# Altium schematic symbol library AudioAmpSchLib.SchLib: 34 symbols
Pins are listed as number, name and electrical type; pins without a type are passive.

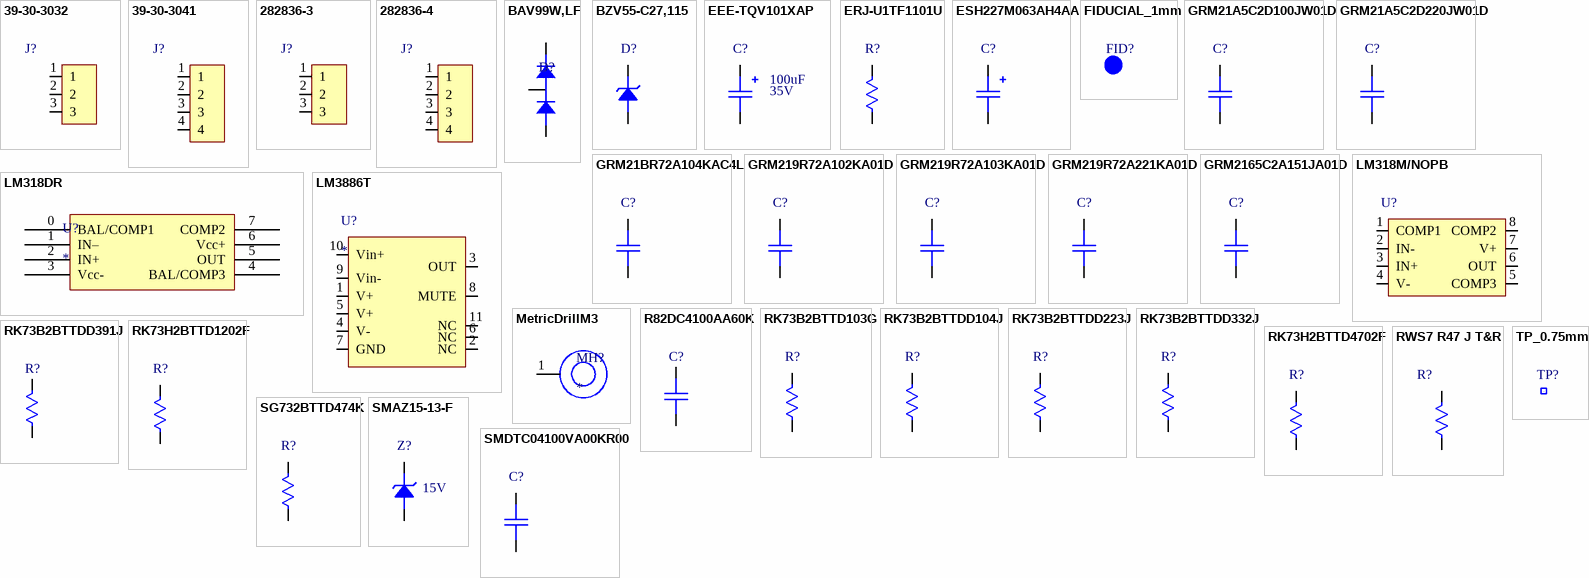
[diagram p0: symbols 39-30-3032 to TP_0.75mm]

## 39-30-3032
designator J?  (value not drawn)
Conn Power HDR 3 POS 4.2mm Solder RA Thru-Hole 3 Terminal 1 Port Mini-Fit Jr™ Frame; Manufacturer: Molex; Supplier 1: Farnell; Manufacturer Part Number: 39-30-3032; RoHS: Yes; Category: Headers and Wire Housings; Stock 1: 6; Pricing 1: 1=1.33000, 10=1.22000, 50=1.10000, 100=0.91400, 500=0.82300, 1000=0.73100 (EUR); ComponentLink1URL: https://datasheet.ciiva.com/5155/0039303032-pcb-headers-160103-5155392.pdf?src-supplier=Mouser; ComponentLink1Description: https://datasheet.ciiva.com/5155/0039303032-pcb-headers-160103-5155392.pdf?src-supplier=Mouser; ComponentLink2URL: https://datasheet.ciiva.com/30191/34870039303032-pcb-headers-30191281.pdf?src-supplier=Onlinecomponents.com; ComponentLink2Description: https://datasheet.ciiva.com/30191/34870039303032-pcb-headers-30191281.pdf?src-supplier=Onlinecomponents.com
footprint CON_39303032
pins: 1, 2, 3

## 39-30-3041
designator J?  (value not drawn)
Conn Power HDR 4 POS 4.2mm Solder RA Thru-Hole 4 Terminal 1 Port Mini-Fit Jr™ Bag; Manufacturer: Molex; Supplier 1: Arrow Electronics; Manufacturer Part Number: 39-30-3041; RoHS: Yes; Category: Headers and Wire Housings; Stock 1: 12737; Pricing 1: 1=0.53590, 10=0.50510, 100=0.47270, 1000=0.43130, 5000=0.40490, 10000=0.39350 (USD); ComponentLink1URL: https://datasheet.ciiva.com/36179/152300039303041-pcb-headers-36179625.pdf?src-supplier=Onlinecomponents.com; ComponentLink1Description: https://datasheet.ciiva.com/36179/152300039303041-pcb-headers-36179625.pdf?src-supplier=Onlinecomponents.com; ComponentLink2URL: https://datasheet.ciiva.com/7843/1597503-7843936.pdf?src-supplier=Element14; ComponentLink2Description: https://datasheet.ciiva.com/7843/1597503-7843936.pdf?src-supplier=Element14
footprint CON_39303041
pins: 1, 2, 3, 4

## 282836-3
designator J?  (value not drawn)
Connector, Terminal Block; Wire Receptacle; 3 Pos.; 16-30 AWG; 0.197 in. CL; Sid; Manufacturer: TE Connectivity; Manufacturer Part Number: 282836-3; Supplier 1: Arrow Electronics; RoHS: Yes; Category: Terminal Blocks; Stock 1: 17595; Pricing 1: 1=1.07040, 10=0.71690, 100=0.59380, 600=0.59230, 1000=0.53630, 4800=0.50760 (USD); ComponentLink1URL: https://datasheet.ciiva.com/16305/eng-cs-1308389-eurostyle-terminal-blocks-0607-16305242.pdf?src-supplier=Future+Electronics; ComponentLink1Description: https://datasheet.ciiva.com/16305/eng-cs-1308389-eurostyle-terminal-blocks-0607-16305242.pdf?src-supplier=Future+Electronics; ComponentLink2URL: https://datasheet.ciiva.com/15169/getdatasheetpartid-155856-15169554.pdf?src-supplier=Verical; ComponentLink2Description: https://datasheet.ciiva.com/15169/getdatasheetpartid-155856-15169554.pdf?src-supplier=Verical; ComponentLink3URL: https://datasheet.ciiva.com/19460/750661-19460522.pdf?src-supplier=Jameco; ComponentLink3Description: https://datasheet.ciiva.com/19460/750661-19460522.pdf?src-supplier=Jameco; ComponentLink4URL: https://datasheet.ciiva.com/11757/0900766b8002dc8a-11757406.pdf?src-supplier=RSComponents; ComponentLink4Description: https://datasheet.ciiva.com/11757/0900766b8002dc8a-11757406.pdf?src-supplier=RSComponents; ComponentLink5URL: https://datasheet.ciiva.com/30106/eng-cs-1308389-eurostyle-terminal-blocks-0607-30106198.pdf?src-supplier=Onlinecomponents.com; ComponentLink5Description: https://datasheet.ciiva.com/30106/eng-cs-1308389-eurostyle-terminal-blocks-0607-30106198.pdf?src-supplier=Onlinecomponents.com; ComponentLink6URL: https://datasheet.ciiva.com/14606/70086276-14606907.pdf?src-supplier=Allied+Electronics; ComponentLink6Description: https://datasheet.ciiva.com/14606/70086276-14606907.pdf?src-supplier=Allied+Electronics; ComponentLink7URL: https://datasheet.ciiva.com/3141/eng-cs-1308389-eurostyle-terminal-blocks-0607-3141119.pdf?src-supplier=Avnet; ComponentLink7Description: https://datasheet.ciiva.com/3141/eng-cs-1308389-eurostyle-terminal-blocks-0607-3141119.pdf?src-supplier=Avnet; ComponentLink8URL: https://datasheet.ciiva.com/823/eng-cd-282836-h10-823445.pdf?src-supplier=Digi-Key; ComponentLink8Description: https://datasheet.ciiva.com/823/eng-cd-282836-h10-823445.pdf?src-supplier=Digi-Key
footprint 282836-3_TYC
pins: 1, 2, 3

## 282836-4
designator J?  (value not drawn)
Connector, Terminal Block; Wire Receptacle; 4 Pos.; 16-30 AWG; 0.197 in. CL; Sid; Manufacturer: TE Connectivity; Manufacturer Part Number: 282836-4; Supplier 1: Arrow Electronics; RoHS: Yes; Category: Terminal Blocks; Stock 1: 3440; Pricing 1: 1=0.88110, 10=0.77090, 100=0.67770, 500=0.64840, 1000=0.59210, 2500=0.54780, 5000=0.37260, 10000=0.36880 (USD); ComponentLink1URL: https://datasheet.ciiva.com/19460/750670-19460514.pdf?src-supplier=Jameco; ComponentLink1Description: https://datasheet.ciiva.com/19460/750670-19460514.pdf?src-supplier=Jameco; ComponentLink2URL: https://datasheet.ciiva.com/11757/0900766b8002dc8a-11757430.pdf?src-supplier=RSComponents; ComponentLink2Description: https://datasheet.ciiva.com/11757/0900766b8002dc8a-11757430.pdf?src-supplier=RSComponents; ComponentLink3URL: https://datasheet.ciiva.com/823/eng-cd-282836-h10-823455.pdf?src-supplier=Digi-Key; ComponentLink3Description: https://datasheet.ciiva.com/823/eng-cd-282836-h10-823455.pdf?src-supplier=Digi-Key; ComponentLink4URL: https://datasheet.ciiva.com/3141/eng-cs-1308389-eurostyle-terminal-blocks-0607-3141577.pdf?src-supplier=Avnet; ComponentLink4Description: https://datasheet.ciiva.com/3141/eng-cs-1308389-eurostyle-terminal-blocks-0607-3141577.pdf?src-supplier=Avnet; ComponentLink5URL: https://datasheet.ciiva.com/26824/getdatasheetpartid-206193-26824087.pdf?src-supplier=Verical; ComponentLink5Description: https://datasheet.ciiva.com/26824/getdatasheetpartid-206193-26824087.pdf?src-supplier=Verical; ComponentLink6URL: https://datasheet.ciiva.com/30161/eng-cs-1308389-eurostyle-terminal-blocks-0607-30161594.pdf?src-supplier=Onlinecomponents.com; ComponentLink6Description: https://datasheet.ciiva.com/30161/eng-cs-1308389-eurostyle-terminal-blocks-0607-30161594.pdf?src-supplier=Onlinecomponents.com; ComponentLink7URL: https://datasheet.ciiva.com/14607/70086278-14607387.pdf?src-supplier=Allied+Electronics; ComponentLink7Description: https://datasheet.ciiva.com/14607/70086278-14607387.pdf?src-supplier=Allied+Electronics
footprint 282836-4_TYC
pins: 1, 2, 3, 4

## BAV99W,LF
designator D?  (value not drawn)
Switching Diode Series 0.9pF 100V 3-Pin SOT-323; Manufacturer: Toshiba; Manufacturer Part Number: BAV99W,LF; Supplier 1: Mouser; RoHS: No; Category: Rectifier Diodes; Stock 1: 14403; Pricing 1: 1=0.22000, 10=0.20200, 50=0.20200, 100=0.11000, 1000=0.04700, 10000=0.03900 (USD)
footprint SOT65P210X100-3N-SOT-323-TOSHIBA (3-Leads, Body 2.00x2.10mm, Pitch 0.65mm, IPC Medium Density); pin to pad A1>1 K1A2>3 K2>2
pins: A1, K1A2, K2

## BZV55-C27,115
designator D?  (value not drawn)
Zener diode BZV55C27 Hottech; SMD; MiniMELF, LL-34 (SOD-80); 27V; 0, 5W; 5%; Manufacturer: Nexperia; Manufacturer Part Number: BZV55-C27,115; Supplier 1: Digi-Key; RoHS: Yes; Category: Zener Diodes; Stock 1: 153; Pricing 1: 1=0.19000, 10=0.17500, 100=0.09520, 500=0.05856, 1000=0.03993 (USD); RoHS Compliant: Yes; ComponentLink1URL: http://www.farnell.com/datasheets/1498690.pdf?src-supplier=Farnell; ComponentLink1Description: http://www.farnell.com/datasheets/1498690.pdf?src-supplier=Farnell; ComponentLink2URL: https://assets.nexperia.com/documents/data-sheet/BZV55_SER.pdf?src-supplier=Digi-Key; ComponentLink2Description: https://assets.nexperia.com/documents/data-sheet/BZV55_SER.pdf?src-supplier=Digi-Key
footprint DIOMELF3515N-SOD80C-NEXPERIA (MELF Diode, 2-Leads, Body 3.50x1.53mm, IPC Medium Density); pin to pad A>2 K>1
pins: A, K

## EEE-TQV101XAP
designator C?  Capacitance: 100uF  Voltage Rating: 35V  (hidden comment: *)
Cap Aluminum 100uF 35V 20% (6.3 X 7.7mm) SMD 0.0003 Ohm 197mA 2000 hr 125°C T/R; Manufacturer: Panasonic; Manufacturer Part Number: EEE-TQV101XAP; ESR (Equivalent Series Resistance): 300mR; Life (Hours): 2000Hour; Lead Diameter: 0.65mm; Supplier 1: RSComponents; RoHS: Yes; Category: Aluminum Electrolytic Capacitors; Stock 1: 10800; Pricing 1: 5=1.00000, 50=0.75600, 250=0.54600, 500=0.36400, 900=0.35000 (EUR); Mount: Surface Mount; Case/Package: Radial; Number of Pins: 8; Min Operating Temperature: -40°C; Max Operating Temperature: 125°C; Tolerance: 20%; Packaging: Tape and Reel; Package Quantity: 900; Ripple Current: 197mA; Voltage Rating (DC): 35V; Termination: SMD/SMT; Series: TQ; Ripple Current (AC): 197mA; Voltage: 35V; Construction: Cylindrical; Diameter: 6.3mm; Length: 7.7mm; Height: 7.7mm; Height - Seated (Max): 0.315inch; Lead Pitch: 1.8mm; RoHS Compliant: Yes; REACH SVHC: No SVHC; Lead Free: Lead Free; ComponentLink1URL: https://datasheet.ciiva.com/23859/aba0000ce139-23859013.pdf?src-supplier=Newark; ComponentLink1Description: https://datasheet.ciiva.com/23859/aba0000ce139-23859013.pdf?src-supplier=Newark; ComponentLink2URL: https://datasheet.ciiva.com/30502/0900766b81183640-30502676.pdf?src-supplier=RSComponents; ComponentLink2Description: https://datasheet.ciiva.com/30502/0900766b81183640-30502676.pdf?src-supplier=RSComponents; ComponentLink3URL: https://datasheet.ciiva.com/30198/aba0000ce139-30198276.pdf?src-supplier=Onlinecomponents.com; ComponentLink3Description: https://datasheet.ciiva.com/30198/aba0000ce139-30198276.pdf?src-supplier=Onlinecomponents.com; ComponentLink4URL: https://datasheet.ciiva.com/14497/1679509-14497981.pdf?src-supplier=Farnell; ComponentLink4Description: https://datasheet.ciiva.com/14497/1679509-14497981.pdf?src-supplier=Farnell; ComponentLink5URL: https://datasheet.ciiva.com/22683/1679509-22683999.pdf?src-supplier=Element14; ComponentLink5Description: https://datasheet.ciiva.com/22683/1679509-22683999.pdf?src-supplier=Element14; ComponentLink6URL: https://datasheet.ciiva.com/15934/aba0000ce139-15934059.pdf?src-supplier=Onlinecomponents.com; ComponentLink6Description: https://datasheet.ciiva.com/15934/aba0000ce139-15934059.pdf?src-supplier=Onlinecomponents.com
footprint CAPAE7866X80M-PANASONIC-TQ-A (Aluminum Electrolytic Capacitor, Body 6.60x6.60x8.00mm, IPC Low Density)
pins: 1, 2

## ERJ-U1TF1101U
designator R?  (value not drawn)
Resistance: 1.1kOhm; Power: 1W; Size: 2512
footprint Chip2PinSM127P600-8N-PANASONIC-ERJU1T
pins: 1, 2

## ESH227M063AH4AA
designator C?  (value not drawn)
Cap, 220ΜF, 63V, 20%; Manufacturer: KEMET; Manufacturer Part Number: ESH227M063AH4AA; Capacitance: 220uF; Life (Hours): 2000Hour; Supplier 1: Mouser; RoHS: Yes; Category: Aluminum Electrolytic Capacitors; Stock 1: 236; Pricing 1: 1=0.58000, 10=0.40900, 50=0.30900, 100=0.26900, 1000=0.26900, 10000=0.26900 (USD); Case/Package: Radial; Min Operating Temperature: -25°C; Max Operating Temperature: 105°C; Tolerance: 20%; Voltage Rating: 63V; Voltage Rating (DC): 63V; Diameter: 10mm; Height: 19mm; Lead Pitch: 5mm; REACH SVHC: No SVHC; RoHS Compliant: Yes; ComponentLink1URL: https://datasheet.ciiva.com/22620/1794402-22620869.pdf?src-supplier=Element14; ComponentLink1Description: https://datasheet.ciiva.com/22620/1794402-22620869.pdf?src-supplier=Element14
footprint Capacitor-KEMET-H4
pins: 1, 2

## FIDUCIAL_1mm
designator FID?  (value not drawn)  (no BOM)
FIDUCIAL_1mm 40 mil diam120mil mask
footprint FID_1mm

## GRM21A5C2D100JW01D
designator C?  (value not drawn)
Cap Ceramic 10pF 200V C0G 5% Pad SMD 0805 125C T/R; Manufacturer: Murata; Manufacturer Part Number: GRM21A5C2D100JW01D; Supplier 1: Arrow Electronics; RoHS: Yes; Category: Ceramic Capacitors; Stock 1: 3605; Pricing 1: 1=0.27880, 10=0.18960, 25=0.18290, 100=0.10650, 250=0.10520, 500=0.07580, 1000=0.06340, 3000=0.06300 (USD); Mount: Surface Mount; Case/Package: 0805; Min Operating Temperature: -55°C; Max Operating Temperature: 125°C; Packaging: Tape and Reel; Capacitance: 10pF; Voltage Rating: 200V; Tolerance: 5%; Voltage Rating (DC): 200V; Dielectric: C0G; Length: 0.079inch; Width: 0.049inch; Thickness: 0.051inch; RoHS Compliant: Yes; ComponentLink1URL: https://search.murata.co.jp/Ceramy/image/img/A01X/G101/ENG/GRM21A5C2D100JW01-01.pdf?src-supplier=Digi-Key; ComponentLink1Description: https://search.murata.co.jp/Ceramy/image/img/A01X/G101/ENG/GRM21A5C2D100JW01-01.pdf?src-supplier=Digi-Key; ComponentLink2URL: http://search.murata.co.jp/Ceramy/image/img/A01X/G101/ENG/GRM21A5C2D100JW01-01.pdf?src-supplier=Digi-Key; ComponentLink2Description: http://search.murata.co.jp/Ceramy/image/img/A01X/G101/ENG/GRM21A5C2D100JW01-01.pdf?src-supplier=Digi-Key
footprint CAPC2012X10N-GRM0805-MURATA (Chip Capacitor, 2-Leads, Body 2.00x1.25mm, IPC Medium Density)
pins: 1, 2

## GRM21A5C2D220JW01D
designator C?  (value not drawn)
Cap Ceramic 22pF 200V C0G 5% SMD 0805 125°C Paper T/R; Manufacturer: Murata; Manufacturer Part Number: GRM21A5C2D220JW01D; Supplier 1: Arrow Electronics; RoHS: Yes; Category: Ceramic Capacitors; Stock 1: 2; Pricing 1: 1=0.04630 (USD); Mount: Surface Mount; Case/Package: 0805; Min Operating Temperature: -55°C; Max Operating Temperature: 125°C; Packaging: Tape and Reel; Capacitance: 22pF; Voltage Rating: 200V; Tolerance: 5%; Voltage Rating (DC): 200V; Dielectric: C0G; Length: 0.079inch; Width: 0.049inch; Thickness: 0.051inch; RoHS Compliant: Yes; ComponentLink1URL: https://search.murata.co.jp/Ceramy/image/img/A01X/G101/ENG/GRM21A5C2D220JW01-01.pdf?src-supplier=Digi-Key; ComponentLink1Description: https://search.murata.co.jp/Ceramy/image/img/A01X/G101/ENG/GRM21A5C2D220JW01-01.pdf?src-supplier=Digi-Key; ComponentLink2URL: http://search.murata.co.jp/Ceramy/image/img/A01X/G101/ENG/GRM21A5C2D220JW01-01.pdf?src-supplier=Digi-Key; ComponentLink2Description: http://search.murata.co.jp/Ceramy/image/img/A01X/G101/ENG/GRM21A5C2D220JW01-01.pdf?src-supplier=Digi-Key
footprint CAPC2012X10N-GRM0805-MURATA (Chip Capacitor, 2-Leads, Body 2.00x1.25mm, IPC Medium Density)
pins: 1, 2

## GRM21BR72A104KAC4L
designator C?  (value not drawn)
0805 0.1 uF 100 V ±10% Tolerance X7R SMT Multilayer Ceramic Capacitor; Manufacturer: Murata; Manufacturer Part Number: GRM21BR72A104KAC4L; Capacitance: 100nF; Voltage Rating: 100V; Dissipation Factor: 0.05%; Supplier 1: Arrow Electronics; RoHS: Yes; Category: Ceramic Capacitors; Stock 1: 15610; Pricing 1: 1=0.26170, 10=0.12880, 25=0.12760, 100=0.10330, 250=0.10110, 500=0.07210, 1000=0.06190, 3000=0.06120, 6000=0.06030, 15000=0.05530 (USD); Mount: Surface Mount; Case/Package: 0805; Case Code (Metric): 2012; Case Code (Imperial): 0805; Dielectric Material: Ceramic; Min Operating Temperature: -55°C; Max Operating Temperature: 125°C; Packaging: Tape and Reel; Tolerance: 10%; Dielectric: X7R; Voltage: 100V; Termination: SMD/SMT; Voltage Rating (DC): 100V; Series: GRM; Construction: Flat; Length: 2mm; Width: 0.049inch; Height: 1.25mm; Thickness: 0.053inch; Depth: 1.25mm; Lead Free: Lead Free; RoHS Compliant: Yes; ComponentLink1URL: http://search.murata.co.jp/Ceramy/image/img/A01X/G101/ENG/GRM21BR72A104KAC4-01.pdf?src-supplier=Digi-Key; ComponentLink1Description: http://search.murata.co.jp/Ceramy/image/img/A01X/G101/ENG/GRM21BR72A104KAC4-01.pdf?src-supplier=Digi-Key
footprint CAPC2012X10N-GRM0805-MURATA (Chip Capacitor, 2-Leads, Body 2.00x1.25mm, IPC Medium Density)
pins: 1, 2

## GRM219R72A102KA01D
designator C?  (value not drawn)
0805 1 nF 100 V ±10 % Tolerance X7R Surface Mount Multilayer Ceramic Capacitor; Manufacturer: Murata; Manufacturer Part Number: GRM219R72A102KA01D; Capacitance: 1nF; Voltage Rating: 100V; Tolerance: 10%; Dissipation Factor: 0.025%; Supplier 1: Arrow Electronics; RoHS: Yes; Category: Ceramic Capacitors; Stock 1: 2320; Pricing 1: 1=0.16850, 10=0.12550, 25=0.12080, 100=0.06030, 250=0.05970, 500=0.04130, 1000=0.03450 (USD); Mount: Surface Mount; Case/Package: 0805; Case Code (Metric): 2012; Case Code (Imperial): 0805; Material: Ceramic; Dielectric Material: Ceramic; Min Operating Temperature: -55°C; Max Operating Temperature: 125°C; Package Quantity: 4000; Packaging: Tape and Reel; Voltage Rating (DC): 100V; Dielectric: X7R; Termination: SMD/SMT; Voltage: 100V; Series: GRM; Construction: Flat; Length: 2mm; Width: 0.049inch; Height: 0.85mm; Thickness: 0.037inch; Depth: 1.25mm; Radiation Hardening: No; Lead Free: Lead Free; RoHS Compliant: Yes; ComponentLink1URL: https://datasheet.ciiva.com/5418/product-5418996.pdf?src-supplier=Mouser; ComponentLink1Description: https://datasheet.ciiva.com/5418/product-5418996.pdf?src-supplier=Mouser; ComponentLink2URL: https://datasheet.ciiva.com/29200/452953-da-01-en-vs-kondensator-0805-29200622.pdf?src-supplier=Conrad; ComponentLink2Description: https://datasheet.ciiva.com/29200/452953-da-01-en-vs-kondensator-0805-29200622.pdf?src-supplier=Conrad; ComponentLink3URL: https://datasheet.ciiva.com/166/partnumbering-e-01-166386.pdf?src-supplier=Digi-Key; ComponentLink3Description: https://datasheet.ciiva.com/166/partnumbering-e-01-166386.pdf?src-supplier=Digi-Key; ComponentLink4URL: https://datasheet.ciiva.com/11621/c02e-11621626.pdf?src-supplier=Avnet; ComponentLink4Description: https://datasheet.ciiva.com/11621/c02e-11621626.pdf?src-supplier=Avnet; ComponentLink5URL: https://datasheet.ciiva.com/2989/c02e-2989678.pdf?src-supplier=Avnet; ComponentLink5Description: https://datasheet.ciiva.com/2989/c02e-2989678.pdf?src-supplier=Avnet
footprint CAPC2012X10N-GRM0805-MURATA (Chip Capacitor, 2-Leads, Body 2.00x1.25mm, IPC Medium Density)
pins: 1, 2

## GRM219R72A103KA01D
designator C?  (value not drawn)
Cap Ceramic 0.01uF 100V X7R 10% SMD 0805 125°C Paper T/R; Manufacturer: Murata; Manufacturer Part Number: GRM219R72A103KA01D; Capacitance: 10nF; Supplier 1: Arrow Electronics; RoHS: Yes; Category: Ceramic Capacitors; Stock 1: 2008; Pricing 1: 1=0.19160, 10=0.16510, 25=0.16340, 100=0.07650, 250=0.07580, 500=0.05240, 1000=0.04340 (USD); Mount: Surface Mount; Case/Package: 0805; Case Code (Imperial): 0805; Case Code (Metric): 2012; Weight: 0.000335oz; Min Operating Temperature: -55°C; Max Operating Temperature: 125°C; Tolerance: 10%; Packaging: Tape and Reel; Dielectric: X7R; Voltage Rating: 100V; Termination: SMD/SMT; Resistor Type: Ceramic; Voltage Rating (DC): 100V; Package Quantity: 4000; Length: 2mm; Width: 0.049inch; Height: 0.85mm; Thickness: 0.037inch; Depth: 1.25mm; RoHS Compliant: Yes; ComponentLink1URL: http://www.mouser.com/ds/2/281/c02e-2905.pdf?src-supplier=Mouser; ComponentLink1Description: http://www.mouser.com/ds/2/281/c02e-2905.pdf?src-supplier=Mouser; ComponentLink2URL: https://search.murata.co.jp/Ceramy/image/img/A01X/G101/ENG/GRM219R72A103KA01-01.pdf?src-supplier=Digi-Key; ComponentLink2Description: https://search.murata.co.jp/Ceramy/image/img/A01X/G101/ENG/GRM219R72A103KA01-01.pdf?src-supplier=Digi-Key
footprint CAPC2012X10N-GRM0805-MURATA (Chip Capacitor, 2-Leads, Body 2.00x1.25mm, IPC Medium Density)
pins: 1, 2

## GRM219R72A221KA01D
designator C?  (value not drawn)
Cap Ceramic 220pF 100V X7R 10% SMD 0805 125°C Paper T/R; Manufacturer: Murata; Manufacturer Part Number: GRM219R72A221KA01D; Supplier 1: Mouser; RoHS: Yes; Category: Ceramic Capacitors; Stock 1: 2206; Pricing 1: 1=0.23000, 10=0.15800, 50=0.15800, 100=0.08800, 1000=0.05300, 10000=0.03900 (USD); Mount: Surface Mount; Case/Package: 0805; Case Code (Metric): 2012; Case Code (Imperial): 0805; Min Operating Temperature: -55°C; Max Operating Temperature: 125°C; Packaging: Tape and Reel; Capacitance: 220pF; Tolerance: 10%; Package Quantity: 4000; Voltage Rating: 100V; Voltage Rating (DC): 100V; Dielectric: X7R; Termination: SMD/SMT; Series: GRM; Construction: Flat; Length: 2mm; Width: 0.049inch; Height: 0.85mm; Thickness: 0.037inch; Depth: 1.25mm; Radiation Hardening: No; RoHS Compliant: Yes; ComponentLink1URL: https://datasheet.ciiva.com/167/partnumbering-e-01-167705.pdf?src-supplier=Digi-Key; ComponentLink1Description: https://datasheet.ciiva.com/167/partnumbering-e-01-167705.pdf?src-supplier=Digi-Key
footprint CAPC2012X10N-GRM0805-MURATA (Chip Capacitor, 2-Leads, Body 2.00x1.25mm, IPC Medium Density)
pins: 1, 2

## GRM2165C2A151JA01D
designator C?  (value not drawn)
Cap Ceramic 150pF 100V C0G 5% SMD 0805 125°C Paper T/R; Manufacturer: Murata; Manufacturer Part Number: GRM2165C2A151JA01D; Temperature Coefficient: 30ppm/°C; Supplier 1: Arrow Electronics; RoHS: Yes; Category: Ceramic Capacitors; Stock 1: 3713; Pricing 1: 1=0.17760, 10=0.12740, 25=0.12600, 100=0.06180, 250=0.06120, 500=0.04360, 1000=0.03530, 3000=0.03490 (USD); Mount: Surface Mount; Case/Package: 0805; Case Code (Imperial): 0805; Case Code (Metric): 2012; Material: Ceramic; Min Operating Temperature: -55°C; Max Operating Temperature: 125°C; Capacitance: 150pF; Tolerance: 5%; Dielectric: C0G; Voltage Rating: 100V; Voltage Rating (DC): 100V; Packaging: Tape and Reel; Package Quantity: 1; Termination: SMD/SMT; Voltage: 100V; Series: GRM; Construction: Flat; Length: 2mm; Width: 1.25mm; Height: 0.6mm; Depth: 1.25mm; Thickness: 0.028inch; Radiation Hardening: No; Lead Free: Lead Free; RoHS Compliant: Yes; ComponentLink1URL: https://datasheet.ciiva.com/29201/452452-da-01-en-vs-kondensator-0805-29201254.pdf?src-supplier=Conrad; ComponentLink1Description: https://datasheet.ciiva.com/29201/452452-da-01-en-vs-kondensator-0805-29201254.pdf?src-supplier=Conrad; ComponentLink2URL: https://datasheet.ciiva.com/5419/product-5419669.pdf?src-supplier=Mouser; ComponentLink2Description: https://datasheet.ciiva.com/5419/product-5419669.pdf?src-supplier=Mouser; ComponentLink3URL: https://datasheet.ciiva.com/133/partnumbering-e-01-133927.pdf?src-supplier=Digi-Key; ComponentLink3Description: https://datasheet.ciiva.com/133/partnumbering-e-01-133927.pdf?src-supplier=Digi-Key; ComponentLink4URL: https://datasheet.ciiva.com/133/partnumbering-e-01-133928.pdf?src-supplier=Digi-Key; ComponentLink4Description: https://datasheet.ciiva.com/133/partnumbering-e-01-133928.pdf?src-supplier=Digi-Key; ComponentLink5URL: https://datasheet.ciiva.com/133/partnumbering-e-01-133929.pdf?src-supplier=Digi-Key; ComponentLink5Description: https://datasheet.ciiva.com/133/partnumbering-e-01-133929.pdf?src-supplier=Digi-Key; ComponentLink6URL: https://datasheet.ciiva.com/11617/product-11617453.pdf?src-supplier=Avnet; ComponentLink6Description: https://datasheet.ciiva.com/11617/product-11617453.pdf?src-supplier=Avnet
footprint CAPC2012X10N-GRM0805-MURATA (Chip Capacitor, 2-Leads, Body 2.00x1.25mm, IPC Medium Density)
pins: 1, 2

## LM318DR
designator U?
Single High-Speed Operational Amplifier 8-SOIC 0 to 70; Manufacturer: Texas Instruments; Manufacturer Part Number: LM318DR; -3db Bandwidth: 15MHz; Voltage Gain: 106.02dB; Slew Rate: 70V/µs; Min Dual Supply Voltage: 5V; Max Dual Supply Voltage: 20V; Common Mode Rejection Ratio: 70dB; Number of Channels: 1; Nominal Supply Current: 10mA; Input Bias Current: 500nA; Input Offset Voltage (Vos): 10mV; Operating Supply Current: 5mA; Amplifier Type: GENERAL PURPOSE; Dual Supply Voltage: 9V; Supplier 1: Digi-Key; RoHS: Yes; Category: Amplifiers - Op Amps, Buffer, Instrumentation; Stock 1: 7674; Pricing 1: 1=1.54000, 10=1.37600, 25=1.30600, 100=1.07270, 250=1.00276, 500=0.88616, 1000=0.77000 (USD); Mount: Surface Mount; Case/Package: SOIC; Number of Pins: 8; Min Operating Temperature: 0°C; Max Operating Temperature: 70°C; Packaging: Tape and Reel; Package Quantity: 2500; Unity Gain Bandwidth Product: 15MHz; Operating Supply Voltage: 20V; Number of Circuits: 1; Gain Bandwidth Product: 15MHz; Number of Elements: 1; Bandwidth: 15MHz; Supply Current: 10mA; Technology: BIPOLAR; Series: -; Length: 4.9mm; Width: 3.91mm; Height: 1.58mm; Radiation Hardening: No; Lead Free: Lead Free; RoHS Compliant: Yes; ComponentLink1URL: https://datasheet.ciiva.com/1812/lm318-1812531.pdf?src-supplier=Digi-Key; ComponentLink1Description: https://datasheet.ciiva.com/1812/lm318-1812531.pdf?src-supplier=Digi-Key; ComponentLink2URL: https://datasheet.ciiva.com/1812/lm318-1812532.pdf?src-supplier=Digi-Key; ComponentLink2Description: https://datasheet.ciiva.com/1812/lm318-1812532.pdf?src-supplier=Digi-Key; ComponentLink3URL: https://datasheet.ciiva.com/1812/lm318-1812533.pdf?src-supplier=Digi-Key; ComponentLink3Description: https://datasheet.ciiva.com/1812/lm318-1812533.pdf?src-supplier=Digi-Key; ComponentLink4URL: https://datasheet.ciiva.com/26223/slos063b-26223324.pdf?src-supplier=Avnet+Europe; ComponentLink4Description: https://datasheet.ciiva.com/26223/slos063b-26223324.pdf?src-supplier=Avnet+Europe; Supplier Part Number 1: 296-24358-1-ND
footprint SOIC127P780X200-8N (SOIC, 8-Leads, Body 6.20x5.30mm, Pitch 1.27mm, IPC Medium Density)
pins: 0 BAL/COMP1, 1 IN–, 2 IN+, 3 Vcc-, 4 BAL/COMP3, 5 OUT, 6 Vcc+, 7 COMP2

## LM318M/NOPB
designator U?  (value not drawn)
LM318-N Single 40V, 15MHZ, High; Manufacturer: TI National Semiconductor; Manufacturer Part Number: LM318M/NOPB; Max Supply Voltage: 20V; Min Dual Supply Voltage: 5V; Max Power Dissipation: 500mW; Voltage Gain: 106.02dB; Nominal Supply Current: 10mA; Number of Channels: 1; Input Bias Current: 500nA; Input Offset Voltage (Vos): 4mV; Slew Rate: 70V/µs; Common Mode Rejection Ratio: 70dB; Operating Supply Current: 5mA; Output Current: 20mA; Amplifier Type: GENERAL PURPOSE; Supplier 1: Digi-Key; RoHS: Yes; Category: Amplifiers - Op Amps, Buffer, Instrumentation; Stock 1: 575; Pricing 1: 1=1.57000, 10=1.41300, 25=1.33280, 100=1.13550, 250=1.06620, 500=0.93294, 1000=0.88013 (USD); Mount: Surface Mount; Case/Package: SOIC; Number of Pins: 8; Contact Plating: Tin,Matte; Min Operating Temperature: 0°C; Max Operating Temperature: 70°C; Package Quantity: 95; Packaging: Rail/Tube; Max Dual Supply Voltage: 20V; Number of Elements: 1; Power Dissipation: 500mW; Max Supply Current: 10mA; Supply Current: 10mA; Technology: BIPOLAR; Operating Supply Voltage: 20V; -3db Bandwidth: 15MHz; Number of Circuits: 1; Gain Bandwidth Product: 15MHz; Length: 5mm; Width: 4mm; Height: 1.5mm; Radiation Hardening: No; Lead Free: Lead Free; RoHS Compliant: Yes; ComponentLink1URL: https://datasheet.ciiva.com/25629/0900766b810fa293-25629045.pdf?src-supplier=RSComponents; ComponentLink1Description: https://datasheet.ciiva.com/25629/0900766b810fa293-25629045.pdf?src-supplier=RSComponents; ComponentLink2URL: https://datasheet.ciiva.com/19472/838031-19472597.pdf?src-supplier=Jameco; ComponentLink2Description: https://datasheet.ciiva.com/19472/838031-19472597.pdf?src-supplier=Jameco; ComponentLink3URL: https://datasheet.ciiva.com/14151/oelmx18-data-e-14151388.pdf?src-supplier=Distrelec; ComponentLink3Description: https://datasheet.ciiva.com/14151/oelmx18-data-e-14151388.pdf?src-supplier=Distrelec; ComponentLink4URL: https://datasheet.ciiva.com/2973/lm118-n-2973325.pdf?src-supplier=Avnet; ComponentLink4Description: https://datasheet.ciiva.com/2973/lm118-n-2973325.pdf?src-supplier=Avnet; ComponentLink5URL: https://datasheet.ciiva.com/6626/lm118-n-6626485.pdf?src-supplier=Digi-Key; ComponentLink5Description: https://datasheet.ciiva.com/6626/lm118-n-6626485.pdf?src-supplier=Digi-Key; ComponentLink6URL: https://datasheet.ciiva.com/48712/001010733-da-01-en-ic-op-amp-hi-slew-lm318m-nopb-soic-8-tid-48712454.pdf?src-supplier=Conrad; ComponentLink6Description: https://datasheet.ciiva.com/48712/001010733-da-01-en-ic-op-amp-hi-slew-lm318m-nopb-soic-8-tid-48712454.pdf?src-supplier=Conrad
footprint SOIC127P600X175-8N-SOIC8-D0008A-TI (SOIC, 8-Leads, Body 4.91x3.90mm, Pitch 1.27mm, IPC Medium Density)
pins: 1 COMP1, 2 IN-, 3 IN+, 4 V-, 5 COMP3, 6 OUT, 7 V+, 8 COMP2

## LM3886T
designator U?
Audio Amp Speaker 1-CH Mono 68W Class-AB 11-Pin(11+Tab) TO-220 Rail; Manufacturer: TI National Semiconductor; Manufacturer Part Number: LM3886T; Voltage Gain: 115dB; Min Supply Voltage: 20V; Max Supply Voltage: 84V; Min Dual Supply Voltage: 10V; Max Dual Supply Voltage: 42V; Gain Bandwidth Product: 8MHz; Power Supply Rejection Ratio (PSRR): 120dB; Common Mode Rejection Ratio: 85dB; Max Power Dissipation: 125W; Number of Channels: 1; Input Offset Voltage (Vos): 10mV; Input Bias Current: 1uA; Quiescent Current: 85mA; Supply Type: Single,Dual; Load Impedance: 8R; Max Output Current: 11.5A; Dual Supply Voltage: 28V; Supplier 1: Farnell; RoHS: No; Category: Amplifiers - Op Amps, Buffer, Instrumentation; Pricing 1: 1=6.53000, 10=5.38000, 25=4.98000, 50=4.72000, 100=4.45000, 250=4.23000, 500=3.38000 (EUR); Mount: Through Hole; Case/Package: TO-220; Number of Pins: 11; Weight: 0.01lb; Min Operating Temperature: -20°C; Max Operating Temperature: 85°C; Output Power: 68W; Packaging: Rail/Tube; Package Quantity: 20; Unity Gain Bandwidth Product: 8MHz; Max Output Power: 68W; Power Dissipation: 125W; Output Current: 11.5A; Series: Overture™; Length: 20.02mm; Width: 4.5mm; Height: 10.69mm; Radiation Hardening: No; REACH SVHC: No SVHC; RoHS Compliant: No; ComponentLink1URL: https://datasheet.ciiva.com/1480/21456-1480999.pdf?src-supplier=Element14; ComponentLink1Description: https://datasheet.ciiva.com/1480/21456-1480999.pdf?src-supplier=Element14; ComponentLink2URL: https://datasheet.ciiva.com/26842/lm3886t-26842547.pdf?src-supplier=IIIC; ComponentLink2Description: https://datasheet.ciiva.com/26842/lm3886t-26842547.pdf?src-supplier=IIIC; Supplier Part Number 1: 9493603
footprint TF11B
pins: 1 V+, 2 NC, 3 OUT, 4 V-, 5 V+, 6 NC, 7 GND, 8 MUTE, 9 Vin-, 10 Vin+, 11 NC

## MetricDrillM3
designator MH?  (no BOM)
Mounting Hole Non Plated Metric 3
footprint MetricM3Hole
pins: 1

## R82DC4100AA60K
designator C?  (value not drawn)
Cap Film 1uF 63V PET 10% (7.2 X 5 X 10mm) Radial 5mm 105°C Loose in Box; Manufacturer: KEMET; Manufacturer Part Number: R82DC4100AA60K; Type: General Purpose; Dissipation Factor: 80%; Voltage Rating (AC): 40V; Lead Diameter: 0.5mm; Supplier 1: Farnell; RoHS: Yes; Category: Film Capacitors; Stock 1: 11575; Pricing 1: 1=0.33500, 50=0.25300, 100=0.21900, 250=0.19200, 500=0.16400, 1000=0.16000, 5000=0.15700 (EUR); Mount: Through Hole; Case/Package: Radial; Dielectric Material: PET; Min Operating Temperature: -55°C; Max Operating Temperature: 105°C; Capacitance: 1uF; Packaging: Bulk; Tolerance: 10%; Dielectric: PET; Termination: Radial; Package Quantity: 1000; Voltage Rating: 63V; Voltage Rating (DC): 63V; Series: R82; Construction: RADIAL; Length: 7.2mm; Width: 5mm; Lead Pitch: 5mm; Depth: 5mm; Height - Seated (Max): 0.398inch; Radiation Hardening: No; RoHS Compliant: Yes; ComponentLink1URL: https://datasheet.ciiva.com/13403/kem-f3101-r82-540827-13403994.pdf?src-supplier=Mouser; ComponentLink1Description: https://datasheet.ciiva.com/13403/kem-f3101-r82-540827-13403994.pdf?src-supplier=Mouser; ComponentLink2URL: https://datasheet.ciiva.com/26929/getdatasheetpartid-330586-26929290.pdf?src-supplier=Verical; ComponentLink2Description: https://datasheet.ciiva.com/26929/getdatasheetpartid-330586-26929290.pdf?src-supplier=Verical
pins: 1, 2

## RK73B2BTTD103G
designator R?  (value not drawn)
Res 10K Ohm 2% 1/4W 1206; Manufacturer: KOA Speer; Manufacturer Part Number: RK73B2BTTD103G; Resistance: 10kR; Power Rating: 250mW; Temperature Coefficient: 200ppm/°C; Supplier 1: Mouser; RoHS: Yes; Category: Chip SMD Resistors; Stock 1: 2830; Pricing 1: 1=0.10000, 10=0.08800, 50=0.08800, 100=0.03400, 1000=0.01500, 10000=0.01100 (USD); Min Operating Temperature: -55°C; Max Operating Temperature: 155°C; Tolerance: 2%; Resistor Type: Thick Film; Length: 3.2mm; Width: 1.6mm; Height: 0.6mm; RoHS Compliant: Yes
footprint Chip2PinSM127P600-8N-RK73H-1206-KOA
pins: 1, 2

## RK73B2BTTDD104J
designator R?  (value not drawn)
Thick Film Resistors - SMD 1/4watts 100Kohms 5%; Manufacturer: KOA Speer; Manufacturer Part Number: RK73B2BTTDD104J; Resistance: 100kR; Power Rating: 250mW; Voltage Rating: 200V; Temperature Coefficient: 200ppm/°C; Supplier 1: Mouser; RoHS: Yes; Category: Resistors; Stock 1: 4533; Pricing 1: 1=0.10000, 10=0.05300, 50=0.05300, 100=0.02200, 1000=0.01000, 10000=0.00900 (USD); Case/Package: 1206; Case Code (Imperial): 1206; Case Code (Metric): 3216; Min Operating Temperature: -55°C; Max Operating Temperature: 155°C; Tolerance: 5%; Packaging: Tape and Reel; Package Quantity: 10000; Resistor Type: Thick Film; Termination: SMD/SMT; Length: 3.2mm; Width: 1.6mm; Height: 0.6mm; Lead Free: Lead Free; ComponentLink1URL: https://datasheet.ciiva.com/5557/rk73b-5557336.pdf?src-supplier=Mouser; ComponentLink1Description: https://datasheet.ciiva.com/5557/rk73b-5557336.pdf?src-supplier=Mouser
footprint Chip2PinSM127P600-8N-RK73H-1206-KOA
pins: 1, 2

## RK73B2BTTDD223J
designator R?  (value not drawn)
Thick Film Resistors 1/4W 22K OHM 5%; Manufacturer: KOA Speer; Manufacturer Part Number: RK73B2BTTDD223J; Resistance: 22kR; Power Rating: 250mW; Voltage Rating: 200V; Temperature Coefficient: 200ppm/°C; Supplier 1: Mouser; RoHS: Yes; Category: Resistors; Stock 1: 4037; Pricing 1: 1=0.10000, 10=0.05300, 50=0.05300, 100=0.02200, 1000=0.01000, 10000=0.00600 (USD); Case/Package: 1206; Case Code (Imperial): 1206; Case Code (Metric): 3216; Min Operating Temperature: -55°C; Max Operating Temperature: 155°C; Tolerance: 5%; Packaging: Tape and Reel; Termination: SMD/SMT; Series: RK73B; Lead Free: Lead Free; RoHS Compliant: Yes; ComponentLink1URL: https://datasheet.ciiva.com/5557/rk73b-5557031.pdf?src-supplier=Mouser; ComponentLink1Description: https://datasheet.ciiva.com/5557/rk73b-5557031.pdf?src-supplier=Mouser
footprint Chip2PinSM127P600-8N-RK73H-1206-KOA
pins: 1, 2

## RK73B2BTTDD332J
designator R?  (value not drawn)
Thick Film Resistors 3.3K OHM 5%; Manufacturer: KOA Speer; Manufacturer Part Number: RK73B2BTTDD332J; Resistance: 3.3kR; Power Rating: 250mW; Voltage Rating: 200V; Temperature Coefficient: 200ppm/°C; Supplier 1: Mouser; RoHS: Yes; Category: Resistors; Stock 1: 4172; Pricing 1: 1=0.10000, 10=0.05300, 50=0.05300, 100=0.02200, 1000=0.01000, 10000=0.00700 (USD); Case/Package: 1206; Case Code (Imperial): 1206; Case Code (Metric): 3216; Min Operating Temperature: -55°C; Max Operating Temperature: 155°C; Tolerance: 5%; Packaging: Tape and Reel; Termination: SMD/SMT; Lead Free: Lead Free; ComponentLink1URL: http://www.mouser.com/ds/2/219/RK73B-919.pdf?src-supplier=Mouser; ComponentLink1Description: http://www.mouser.com/ds/2/219/RK73B-919.pdf?src-supplier=Mouser
footprint Chip2PinSM127P600-8N-RK73H-1206-KOA
pins: 1, 2

## RK73B2BTTDD391J
designator R?  (value not drawn)
Thick Film Resistors - SMD 1/4W 390 OHM 5%; Manufacturer: KOA Speer; Manufacturer Part Number: RK73B2BTTDD391J; Power Rating: 250mW; Resistance: 390R; Voltage Rating: 200V; Temperature Coefficient: 200ppm/°C; Supplier 1: Mouser; RoHS: Yes; Category: Chip SMD Resistors; Stock 1: 1283; Pricing 1: 1=0.10000, 10=0.05300, 50=0.05300, 100=0.02200, 1000=0.01000, 10000=0.00600 (USD); Case/Package: 1206; Case Code (Imperial): 1206; Case Code (Metric): 3216; Min Operating Temperature: -55°C; Max Operating Temperature: 155°C; Packaging: Tape and Reel; Package Quantity: 10000; Tolerance: 5%; Termination: SMD/SMT; Resistor Type: Thick Film; Series: RK73B; Length: 3.2mm; Width: 1.6mm; Height: 0.6mm; Lead Free: Lead Free; RoHS Compliant: Yes; ComponentLink1URL: http://www.koaspeer.com/catimages/Products/RK73B/RK73B.pdf?src-supplier=Mouser; ComponentLink1Description: http://www.koaspeer.com/catimages/Products/RK73B/RK73B.pdf?src-supplier=Mouser
footprint Chip2PinSM127P600-8N-RK73H-1206-KOA
pins: 1, 2

## RK73H2BTTD1202F
designator R?  (value not drawn)
Res Thick Film 1206 12K Ohm 1% 0.25W(1/4W) ±100ppm/C Pad SMD Automotive T/R; Manufacturer: KOA Speer; Manufacturer Part Number: RK73H2BTTD1202F; Resistance: 12kR; Power Rating: 250mW; Voltage Rating: 200V; Temperature Coefficient: 100ppm/°C; Supplier 1: Farnell; RoHS: Yes; Category: Chip SMD Resistors; Stock 1: 50; Pricing 1: 10=0.06000, 100=0.02500, 500=0.01800, 1000=0.01100, 2500=0.01000, 5000=0.00600, 25000=0.00590 (EUR); Case/Package: 1206; Number of Pins: 2; Case Code (Imperial): 1206; Case Code (Metric): 3216; Min Operating Temperature: -55°C; Max Operating Temperature: 155°C; Tolerance: 1%; Packaging: Tape and Reel; Package Quantity: 5000; Resistor Type: Thick Film; Termination: SMD/SMT; Voltage Rating (DC): 200V; Series: RK73H; Resistance Tolerance: 1%; Length: 3.2mm; Width: 1.6mm; Height: 0.6mm; Lead Free: Lead Free; RoHS Compliant: Yes; ComponentLink1URL: https://datasheet.ciiva.com/5554/rk73h-5554649.pdf?src-supplier=Mouser; ComponentLink1Description: https://datasheet.ciiva.com/5554/rk73h-5554649.pdf?src-supplier=Mouser; ComponentLink2URL: https://datasheet.ciiva.com/7763/549017-7763194.pdf?src-supplier=Element14; ComponentLink2Description: https://datasheet.ciiva.com/7763/549017-7763194.pdf?src-supplier=Element14
footprint Chip2PinSM127P600-8N-RK73H-1206-KOA
pins: 1, 2

## RK73H2BTTD4702F
designator R?  (value not drawn)
Res Thick Film 1206 47K Ohm 1% 0.25W(1/4W) ±100ppm/C Pad SMD Automotive T/R; Manufacturer: KOA Speer; Manufacturer Part Number: RK73H2BTTD4702F; Resistance: 47kR; Power Rating: 250mW; Voltage Rating: 200V; Temperature Coefficient: 100ppm/°C; Supplier 1: Digi-Key; RoHS: Yes; Category: Chip SMD Resistors; Stock 1: 20654; Pricing 1: 1=0.10000, 10=0.06000, 100=0.02440, 1000=0.01097, 2500=0.00952 (USD); Case/Package: Molded; Number of Pins: 2; Case Code (Imperial): 1206; Case Code (Metric): 3216; Min Operating Temperature: -55°C; Max Operating Temperature: 155°C; Tolerance: 1%; Packaging: Tape and Reel; Termination: SMD/SMT; Resistor Type: Thick Film; Voltage Rating (DC): 200V; Series: RK73H; Resistance Tolerance: 1%; REACH SVHC: No SVHC; Lead Free: Lead Free; RoHS Compliant: Yes; ComponentLink1URL: https://datasheet.ciiva.com/22681/549017-22681256.pdf?src-supplier=Element14; ComponentLink1Description: https://datasheet.ciiva.com/22681/549017-22681256.pdf?src-supplier=Element14; ComponentLink2URL: https://datasheet.ciiva.com/5554/rk73h-5554329.pdf?src-supplier=Mouser; ComponentLink2Description: https://datasheet.ciiva.com/5554/rk73h-5554329.pdf?src-supplier=Mouser; ComponentLink3URL: https://datasheet.ciiva.com/48426/rk73h-series-eng-jap-tds-48426457.pdf?src-supplier=Distrelec; ComponentLink3Description: https://datasheet.ciiva.com/48426/rk73h-series-eng-jap-tds-48426457.pdf?src-supplier=Distrelec
footprint Chip2PinSM127P600-8N-RK73H-1206-KOA
pins: 1, 2

## RWS7 R47 J T&R
designator R?  (value not drawn)
7 Watts Wirewound SMD 470 Milliohms 5% Tape Reel / ARCOL; Manufacturer: Ohmite; Manufacturer Part Number: RWS7 R47 J T&R; Supplier 1: Mouser; RoHS: Yes; Stock 1: 192; Pricing 1: 1=2.23000, 10=2.04000, 50=1.92000, 100=1.52000, 1000=0.92700, 10000=0.90000 (USD)
footprint Chip2PinSM127P600-8N-RWS7-OHMITE
pins: 1, 2

## SG732BTTD474K
designator R?  (value not drawn)
anti-surge thick film chip resistor, 1206, RoHS; Manufacturer: KOA Speer; Manufacturer Part Number: SG732BTTD474K; Resistance: 470kR; Tolerance: 10%; Power Rating: 250mW; Voltage Rating: 200V; Temperature Coefficient: 200ppm/°C; Supplier 1: Mouser; RoHS: Yes; Category: Chip SMD Resistors; Stock 1: 3298; Pricing 1: 1=0.34000, 10=0.29100, 50=0.29100, 100=0.11600, 1000=0.05500, 10000=0.03700 (USD); Case/Package: 1206; Case Code (Imperial): 1206; Case Code (Metric): 3216; Min Operating Temperature: -55°C; Max Operating Temperature: 155°C; Packaging: Tape and Reel; Termination: SMD/SMT; Voltage Rating (DC): 200V; Series: SG73; RoHS Compliant: Yes; ComponentLink1URL: https://datasheet.ciiva.com/5561/sg73-5561962.pdf?src-supplier=Mouser; ComponentLink1Description: https://datasheet.ciiva.com/5561/sg73-5561962.pdf?src-supplier=Mouser
footprint Chip2PinSM127P600-8N-RK73H-1206-KOA
pins: 1, 2

## SMAZ15-13-F
designator Z?  Zener Voltage: 15V  (hidden comment: *)
Vz=15V 14.25V~15.75V Izt=50mA P=1W; Manufacturer: Diodes; Manufacturer Part Number: SMAZ15-13-F; Max Reverse Leakage Current: 1uA; Element Configuration: Single; Tolerance: 5%; Forward Voltage: 1.2V; Max Power Dissipation: 1W; Impedance: 10R; Test Current: 50mA; Supplier 1: Farnell; RoHS: Yes; Category: Zener Diodes; Stock 1: 7565; Pricing 1: 5=0.47100, 50=0.29300, 250=0.20100, 1000=0.15400 (EUR); Mount: Surface Mount; Case/Package: SMA; Number of Pins: 2; Weight: 0.002258oz; Min Operating Temperature: -65°C; Max Operating Temperature: 150°C; Packaging: Tape and Reel; Package Quantity: 5000; Voltage Tolerance: 5%; Zener Current: 1uA; Max Reverse Current: 1uA; Power Dissipation: 1W; Working Voltage: 15V; Termination: SMD/SMT; Power Rating: 1W; Voltage Rating (DC): 15V; Series: -; Length: 4.6mm; Width: 2.92mm; Height: 2.09mm; Radiation Hardening: No; Lead Free: Lead Free; RoHS Compliant: Yes; ComponentLink1URL: https://datasheet.ciiva.com/15142/getdatasheetpartid-93529-15142590.pdf?src-supplier=Verical; ComponentLink1Description: https://datasheet.ciiva.com/15142/getdatasheetpartid-93529-15142590.pdf?src-supplier=Verical; ComponentLink2URL: https://datasheet.ciiva.com/4734/ds18015-38228-4734232.pdf?src-supplier=Mouser; ComponentLink2Description: https://datasheet.ciiva.com/4734/ds18015-38228-4734232.pdf?src-supplier=Mouser; ComponentLink3URL: https://datasheet.ciiva.com/893/ds18015-893402.pdf?src-supplier=Digi-Key; ComponentLink3Description: https://datasheet.ciiva.com/893/ds18015-893402.pdf?src-supplier=Digi-Key; ComponentLink4URL: https://datasheet.ciiva.com/893/ds18015-893401.pdf?src-supplier=Digi-Key; ComponentLink4Description: https://datasheet.ciiva.com/893/ds18015-893401.pdf?src-supplier=Digi-Key
footprint DIODESINC-SMA
pins: A, K

## SMDTC04100VA00KR00
designator C?  (value not drawn)
Cap Film 1UF 10% 63VDC 4030; Manufacturer: WIMA; Manufacturer Part Number: SMDTC04100VA00KR00; Voltage Rating: 63V; Voltage Rating (AC): 40V; Supplier 1: Mouser; RoHS: Yes; Category: Film Capacitors; Stock 1: 709; Pricing 1: 1=1.62000, 10=1.29000, 50=1.29000, 100=0.96200, 1000=0.64100, 10000=0.55700 (USD); Case/Package: 4030; Min Operating Temperature: -55°C; Max Operating Temperature: 100°C; Capacitance: 1uF; Package Quantity: 775; Packaging: Tape and Reel; Voltage Rating (DC): 63V; Tolerance: 10%; Termination: SMD/SMT; ComponentLink1URL: https://datasheet.ciiva.com/13373/wima-smd-pet-10719-13373865.pdf?src-supplier=Mouser; ComponentLink1Description: https://datasheet.ciiva.com/13373/wima-smd-pet-10719-13373865.pdf?src-supplier=Mouser
footprint Chip2PinSM127P600-8N-4030-SMD-PET-WIMA
pins: 1, 2

## TP_0.75mm
designator TP?  (value not drawn)  (no BOM)
Pad testpoint with 0.75mm Diameter
footprint Pad_0.75mm
pins: ?1